# Altium integrated library CC0805KKX5R5BB475.IntLib: 1 symbol
Pins are listed as number, name and electrical type; pins without a type are passive.

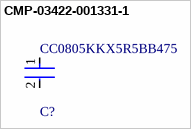
[diagram p0: symbol CMP-03422-001331-1]

## CMP-03422-001331-1
designator C?, comment CC0805KKX5R5BB475
CAP CER 4.7UF 6.3V X5R 0805; Manufacturer: Yageo; Tolerance: 0.1; Material: Ceramic; ComponentLink2URL: http://www.yageo.com/documents/recent/UPY-GPHC_Y5V_6.3V-to-50V_8.pdf; Octopart: https://octopart.com/cc0805kkx5r5bb475-yageo-8376548; Height: 0.95mm; Manufacturer Part Number: CC0805KKX5R5BB475; Category: Cap; Ipc Land Pattern Name: CAPC200125X85; Temperature Range High: +85°C; Device Class L3: Ceramic Capacitors; Device Class L1: Passive Components; Lead Free: Yes; Temperature Characteristic: X5R; Digikey Description: CAP CER 4.7UF 6.3V X5R 0805; Footprint Url: http://www.yageo.com/exep/pages/download/literatures/UPY-C_GEN_24.pdf; Automotive: No; ComponentLink2Description: Datasheet; Temperature Range Low: -30°C; RoHS: TRUE; Value: 4.7 uF; Capacitance: 4.7 uF; Temperature: -30°C to +85°C; Mouser Description: Multilayer Ceramic Capacitors MLCC - SMD/SMT 4.7uF 6.3V X5R 10%; Package: CC0805-0.85; Device Class L2: Capacitors; Voltage Rating: 6.3 V
footprint FP-CC0805-0_85-IPC_C
footprint FP-CC0805-0_85-IPC_A
footprint FP-CC0805-0_85-MFG
footprint FP-CC0805-0_85-IPC_B
pins: 1, 2